# EAGLE library part ARDUINO_PRO_MICRO (library arduino)
Arduino Pro Micro Pin headers for Arduino Pro Micro board from SparkFun
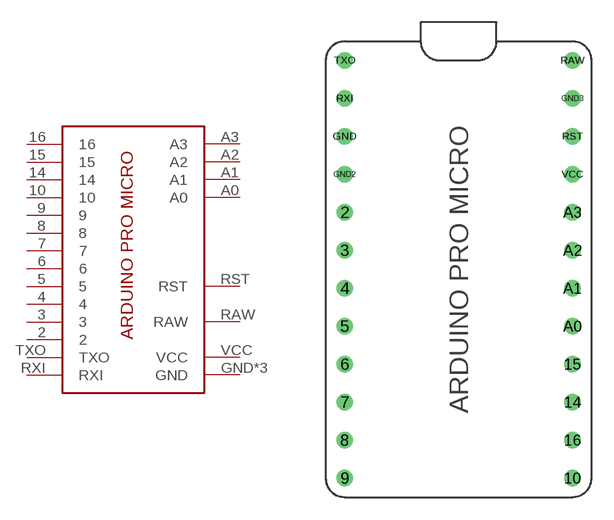
[diagram p0: symbol with the pads of ARDUINO_PRO_MICRO; footprint ARDUINO_PRO_MICRO]

Designator prefix -

## ARDUINO_PRO_MICRO  [ARDUINO_PRO_MICRO]
2  2
3  3
4  4
5  5
6  6
7  7
8  8
9  9
10  10
14  14
15  15
16  16
A0  A0
A1  A1
A2  A2
A3  A3
GND  GND
GND2  GND
GND3  GND
RAW  RAW
RST  RST
RXI  RXI
TXO  TXO
VCC  VCC

## Footprint ARDUINO_PRO_MICRO (pad centres in mm)
drill 0.6: 2 -7.62,3.81; 3 -7.62,1.27; 4 -7.62,-1.27; 5 -7.62,-3.81; 6 -7.62,-6.35; 7 -7.62,-8.89; 8 -7.62,-11.43; 9 -7.62,-13.97; 10 7.62,-13.97; 14 7.62,-8.89; 15 7.62,-6.35; 16 7.62,-11.43; A0 7.62,-3.81; A1 7.62,-1.27; A2 7.62,1.27; A3 7.62,3.81; GND -7.62,8.89; GND2 -7.62,6.35; GND3 7.62,11.43; RAW 7.62,13.97; RST 7.62,8.89; RXI -7.62,11.43; TXO -7.62,13.97; VCC 7.62,6.35